# Altium schematic symbol library LM2623AMMX.SchLib: 1 symbol
Pins are listed as number, name and electrical type; pins without a type are passive.

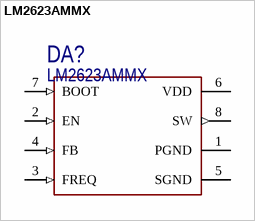
[diagram p0: symbol LM2623AMMX]

## LM2623AMMX
designator DA?
Повышающий DC-DC преобразователь 2A
pins: 1 PGND (power), 2 EN (in), 3 FREQ (in), 4 FB (in), 5 SGND (power), 6 VDD (power), 7 BOOT (in), 8 SW (out)